# Altium schematic symbol library TPS7A8401A.SchLib: 1 symbol
Pins are listed as number, name and electrical type; pins without a type are passive.

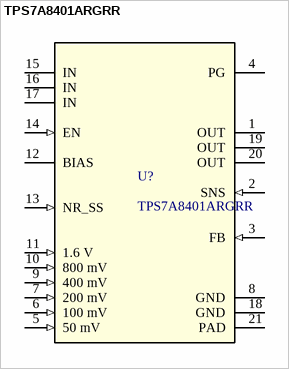
[diagram p0: symbol TPS7A8401ARGRR]

## TPS7A8401ARGRR
designator U?
3-A, low-VIN (1.1-V), low-noise, high-accuracy, ultra-low-dropout voltage regulator with power good 20-VQFN -40 to 125; Manufacturer_Name: Texas Instruments; TYPE: TYPE; RefDes: RefDes; Copyright: Copyright (C) 2025 Ultra Librarian. All rights reserved.; Manufacturer_Part_Number: TPS7A8401ARGRR
footprint RGR0020A
pins: 1 OUT (power), 2 SNS (in), 3 FB (in), 4 PG (oc), 5 50 mV (in), 6 100 mV (in), 7 200 mV (in), 8 GND (power), 9 400 mV (in), 10 800 mV (in), 11 1.6 V (in), 12 BIAS (power), 13 NR_SS (in), 14 EN (in), 15 IN (power), 16 IN (power), 17 IN (power), 18 GND (power), 19 OUT (power), 20 OUT (power), 21 PAD (power)